# Altium footprint library EReference-PCB.PcbLib: 54 footprints (part 1 of 4)
Each footprint in its own frame and in the unit in brackets; x right, y up, seen from the top. Pads: shape width x height; smd on the part's side, far side on the other; paste and mask are expansions set on the pad; w line width, h text height; cw(c..) or ccw(c..) is an arc to the next point about the centre after c.
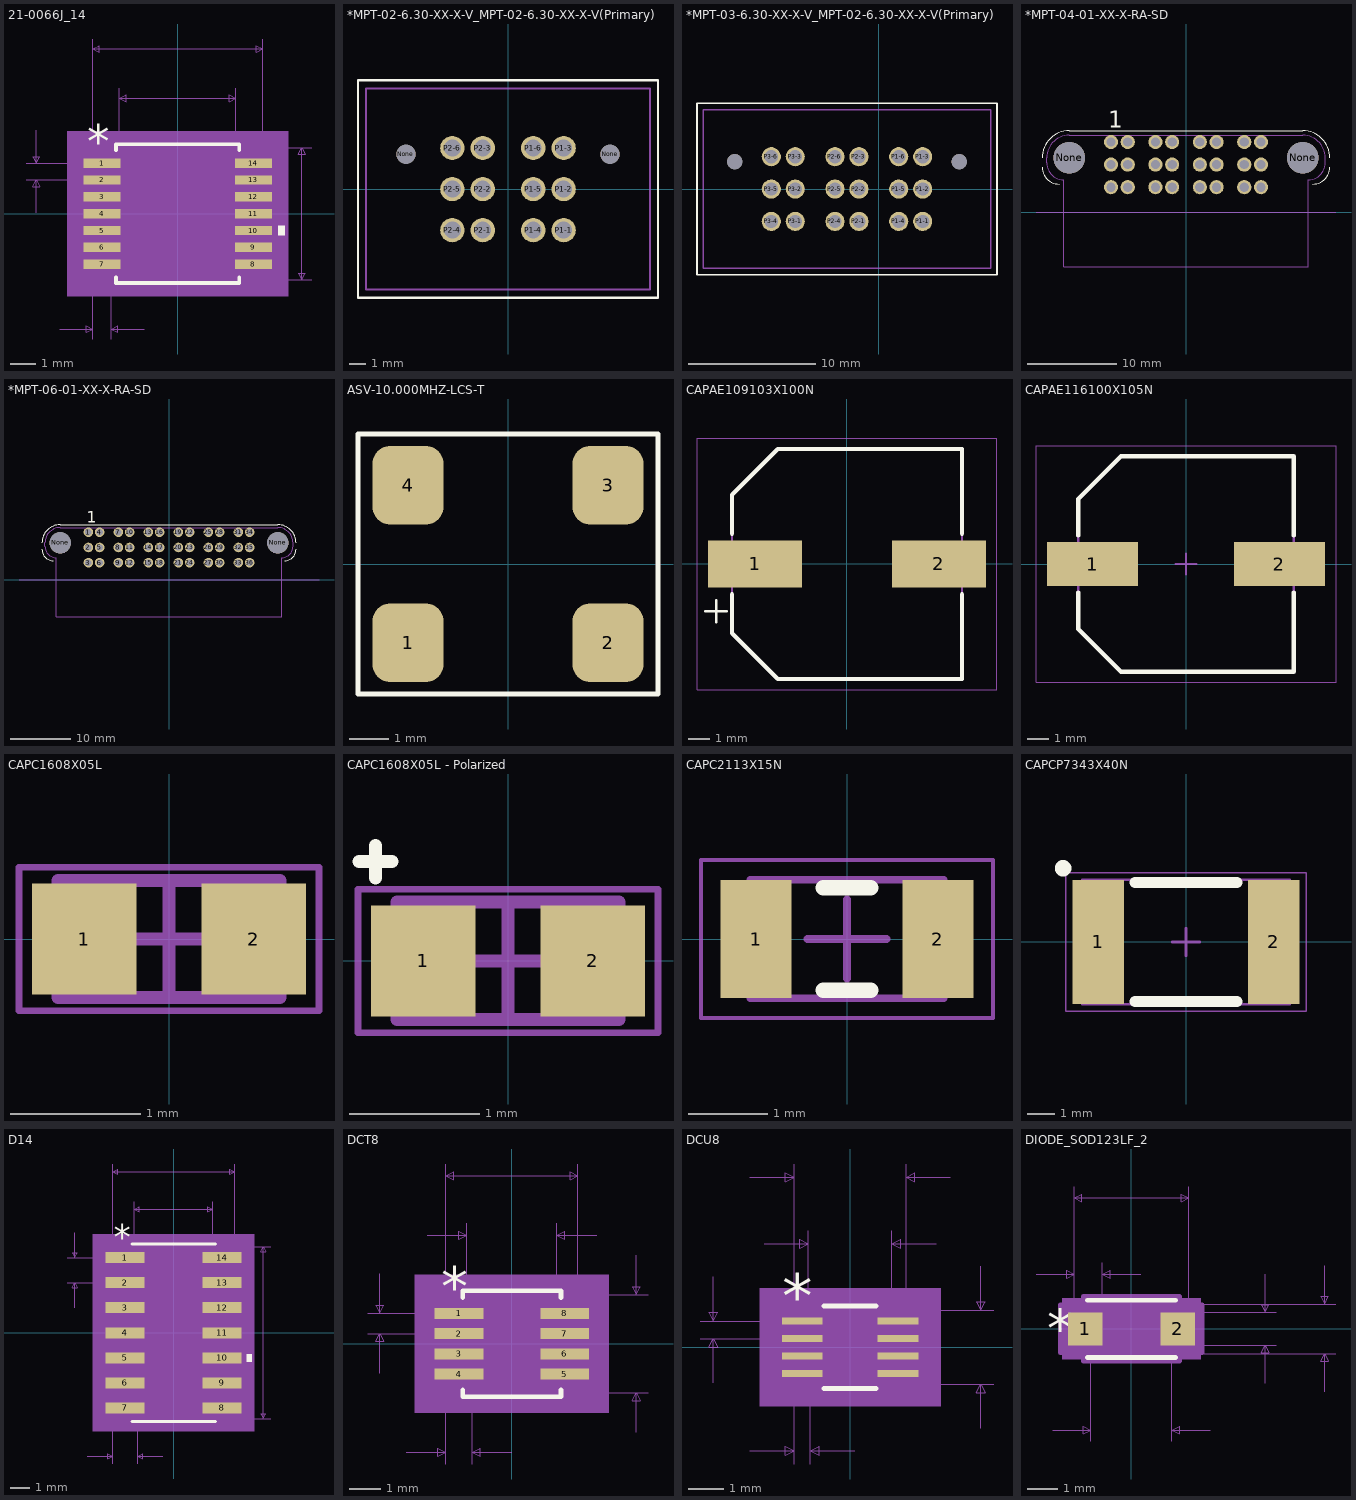
[diagram p0: the footprints below, top view; thin cyan lines are the x and y axes]

## 21-0066J_14 [mil]
pads (14):
  rect 56x14 smd paste+0 mask+0: 1(-115,76.77) 2(-115,51.18) 3(-115,25.59) 4(-115,0) 5(-115,-25.59) 6(-115,-51.18) 7(-115,-76.77) 8(115,-76.77) 9(115,-51.18) 10(115,-25.59) 11(115,0) 12(115,25.59) 13(115,51.18) 14(115,76.77)
Top Overlay:
  region: 153,-18.09 163,-18.09 163,-33.09 153,-33.09
  lines w6: -93.5,-96.87 -93.5,-105.5 93.5,-105.5 93.5,-96.87 ; -93.5,96.87 -93.5,105.5 93.5,105.5 93.5,96.87
  text "*" at -137.5,85.77 h50
Courtyard Top:
  region: 168,-125.5 -168,-125.5 -168,125.5 168,125.5
3D Body Top:
  lines w1: -230,51.18 -115,51.18 ; -230,76.77 -115,76.77 ; -215,1.18 -215,51.18 ; -215,126.77 -215,76.77 ; -179,-175.5 -129,-175.5 ; -129,-190.5 -129,0 -129,265.5 ; -101,-190.5 -101,0 ; -88.5,0 -88.5,190.5 ; -51,-175.5 -101,-175.5 ; 0,-100.5 203.5,-100.5 ; 0,100.5 203.5,100.5 ; 88.5,0 88.5,190.5 ; 129,0 129,265.5 ; -215,51.18 -210,41.18 -220,41.18 -215,51.18 ; -215,76.77 -210,86.77 -220,86.77 -215,76.77 ; -129,-175.5 -139,-180.5 -139,-170.5 -129,-175.5 ; -129,250.5 -119,245.5 -119,255.5 -129,250.5 ; -129,250.5 129,250.5 ; -101,-175.5 -91,-180.5 -91,-170.5 -101,-175.5 ; -88.5,175.5 -78.5,170.5 -78.5,180.5 -88.5,175.5 ; -88.5,175.5 88.5,175.5 ; 88.5,175.5 78.5,170.5 78.5,180.5 88.5,175.5 ; 129,250.5 119,245.5 119,255.5 129,250.5 ; 188.5,-100.5 193.5,-90.5 183.5,-90.5 188.5,-100.5 ; 188.5,-100.5 188.5,100.5 ; 188.5,100.5 193.5,90.5 183.5,90.5 188.5,100.5
  text "0.028in/0.711mm" at -208.75,-220.5 h25
  text "0.026in/0.65mm" at -410,51.48 h25
  text "0.201in/5.105mm" at 208.5,-12.5 h25
  text "0.258in/6.553mm" at -93.75,270.5 h25
  text "0.177in/4.496mm" at -93.75,195.5 h25
  text "Alt 2 Padstyle: OX90Y60D30P" at -337.5,-600.5 h50
  text "Alt 1 Padstyle: OX60Y90D30P" at -337.5,-540.5 h50
  text "Pin One Padstyle: RX56Y14D0T" at -350,-360.5 h50
  text "Default Padstyle: RX56Y14D0T" at -350,-300.5 h50
Assembly:
  lines w0: -12,100.5 ccw(c0,100.5) 12,100.5
  lines w1: -129,-82.77 -88.5,-82.77 -88.5,-70.77 -129,-70.77 -129,-82.77 ; -129,-57.18 -88.5,-57.18 -88.5,-45.18 -129,-45.18 -129,-57.18 ; -129,-31.59 -88.5,-31.59 -88.5,-19.59 -129,-19.59 -129,-31.59 ; -129,-6 -88.5,-6 -88.5,6 -129,6 -129,-6 ; -129,19.59 -88.5,19.59 -88.5,31.59 -129,31.59 -129,19.59 ; -129,45.18 -88.5,45.18 -88.5,57.18 -129,57.18 -129,45.18 ; -129,70.77 -88.5,70.77 -88.5,82.77 -129,82.77 -129,70.77 ; -88.5,-100.5 -88.5,100.5 88.5,100.5 88.5,-100.5 -88.5,-100.5 ; 88.5,-82.77 129,-82.77 129,-70.77 88.5,-70.77 88.5,-82.77 ; 88.5,-57.18 129,-57.18 129,-45.18 88.5,-45.18 88.5,-57.18 ; 88.5,-31.59 129,-31.59 129,-19.59 88.5,-19.59 88.5,-31.59 ; 88.5,-6 129,-6 129,6 88.5,6 88.5,-6 ; 88.5,19.59 129,19.59 129,31.59 88.5,31.59 88.5,19.59 ; 88.5,45.18 129,45.18 129,57.18 88.5,57.18 88.5,45.18 ; 88.5,70.77 129,70.77 129,82.77 88.5,82.77 88.5,70.77
  text "*" at -86,47.5 h50
Mechanical 15:
  region: -98.5,-93.77 -153,-93.77 -153,93.77 -98.5,93.77 -98.5,110.5 98.5,110.5 98.5,93.77 153,93.77 153,-93.77 98.5,-93.77 98.5,-110.5 -98.5,-110.5
  lines w6: -153,-93.77 -98.5,-93.77 -98.5,-110.5 98.5,-110.5 98.5,-93.77 153,-93.77 153,93.77 98.5,93.77 98.5,110.5 -98.5,110.5 -98.5,93.77 -153,93.77 -153,-93.77
3D body: height 10, standoff 0, extent 0,0 10,10

## *MPT-02-6.30-XX-X-V_MPT-02-6.30-XX-X-V(Primary) [mm]
pads (14):
  round 1.19 hole 1.19 unplated: None(-6.31,2.15) None(6.31,2.15)
  round 1.5 hole 1.04: P1-1(3.44,-2.54) P1-2(3.44,0) P1-3(3.44,2.54) P1-4(1.56,-2.54) P1-5(1.56,0) P1-6(1.56,2.54) P2-1(-1.56,-2.54) P2-2(-1.56,0) P2-3(-1.56,2.54) P2-4(-3.44,-2.54) P2-5(-3.44,0) P2-6(-3.44,2.54)
Top Overlay:
  lines w0.127: -9.275,-6.72 -9.275,6.73 9.275,6.73 9.275,-6.72 -9.275,-6.72
Assembly:
  lines w0.127: -8.775,-6.22 -8.775,6.23 ; -8.775,-6.22 8.775,-6.22 ; -8.775,-6.22 -8.775,6.23 ; -8.775,-6.22 8.775,-6.22 ; -8.775,6.23 8.775,6.23 ; -8.775,6.23 8.775,6.23 ; 8.775,-6.22 8.775,6.23 ; 8.775,-6.22 8.775,6.23
3D body "MPT-02-6.30-01-L-V.stp": height 11, standoff -3.1, extent -9.78,-6.227 9.78,6.223

## *MPT-03-6.30-XX-X-V_MPT-02-6.30-XX-X-V(Primary) [mm]
pads (20):
  round 1.19 hole 1.19 unplated: None(-11.31,2.15) None(6.31,2.15)
  round 1.5 hole 1.04: P1-1(3.44,-2.54) P1-2(3.44,0) P1-3(3.44,2.54) P1-4(1.56,-2.54) P1-5(1.56,0) P1-6(1.56,2.54) P2-1(-1.56,-2.54) P2-2(-1.56,0) P2-3(-1.56,2.54) P2-4(-3.44,-2.54) P2-5(-3.44,0) P2-6(-3.44,2.54) P3-1(-6.56,-2.54) P3-2(-6.56,0) P3-3(-6.56,2.54) P3-4(-8.44,-2.54) P3-5(-8.44,0) P3-6(-8.44,2.54)
Top Overlay:
  lines w0.127: -14.271,-6.72 9.275,-6.72 9.275,6.73 -14.271,6.73 -14.271,-6.72
Assembly:
  lines w0.127: -8.775,-6.22 8.775,-6.22 ; -8.775,6.23 8.775,6.23 ; 8.775,-6.22 8.775,6.23 ; 8.775,-6.22 8.775,6.23 ; 8.775,-6.22 -13.775,-6.22 -13.775,6.23 8.775,6.23
3D body "MPT-03-6.30-01-L-V.stp": height 11.5, standoff -2.6, extent -14.781,-6.227 9.779,6.223

## *MPT-04-01-XX-X-RA-SD [mm]
pads (26):
  round 3.56 hole 3.56 unplated: None(-13.14,6.15) None(13.14,6.15)
  round 1.6 hole 1.04: P1-1(-8.44,7.93) P1-2(-8.44,5.39) P1-3(-8.44,2.85) P1-4(-6.56,7.93) P1-5(-6.56,5.39) P1-6(-6.56,2.85) P2-1(-3.44,7.93) P2-2(-3.44,5.39) P2-3(-3.44,2.85) P2-4(-1.56,7.93) P2-5(-1.56,5.39) P2-6(-1.56,2.85) P3-1(1.56,7.93) P3-2(1.56,5.39) P3-3(1.56,2.85) P3-4(3.44,7.93) P3-5(3.44,5.39) P3-6(3.44,2.85) P4-1(6.56,7.93) P4-2(6.56,5.39) P4-3(6.56,2.85) P4-4(8.44,7.93) P4-5(8.44,5.39) P4-6(8.44,2.85)
Top Overlay:
  lines w0.127: -16.18,5.095 ccw(c-14.275,5.095) -14.275,3.19 ; -16.18,6.15 cw(c-13.14,6.15) -13.14,9.19 13.14,9.19 cw(c13.14,6.15) 16.18,6.15 ; 14.275,3.19 ccw(c14.275,5.095) 16.18,5.095
  text "1" at -8.735,9.527 h1.88
Assembly:
  lines w0.127: -15.68,5.595 ccw(c-13.775,5.595) -13.775,3.69 ; -15.68,5.595 ccw(c-13.775,5.595) -13.775,3.69 ; -15.68,5.595 -15.68,6.15 ; -15.68,5.595 -15.68,6.15 ; -15.68,6.15 cw(c-13.14,6.15) -13.14,8.69 ; -15.68,6.15 cw(c-13.14,6.15) -13.14,8.69 ; -13.775,-6.12 -13.775,3.69 ; -13.775,-6.12 13.775,-6.12 ; -13.775,-6.12 -13.775,3.69 ; -13.775,-6.12 13.775,-6.12 ; -13.14,8.69 13.14,8.69 ; -13.14,8.69 13.14,8.69 ; 13.14,8.69 cw(c13.14,6.15) 15.68,6.15 ; 13.14,8.69 cw(c13.14,6.15) 15.68,6.15 ; 13.775,-6.12 13.775,3.69 ; 13.775,-6.12 13.775,3.69 ; 13.775,3.69 ccw(c13.775,5.595) 15.68,5.595 ; 13.775,3.69 ccw(c13.775,5.595) 15.68,5.595 ; 15.68,5.595 15.68,6.15 ; 15.68,5.595 15.68,6.15 ; -16.88,0 16.88,0 -16.88,0
3D body "MPT-04-01-01-L-RA-SD.stp": height 10.75, standoff -2.77, extent -15.621,-6.008 15.739,8.802

## *MPT-06-01-XX-X-RA-SD [mm]
pads (38):
  round 1.6 hole 1.04: 1(-13.44,7.93) 2(-13.44,5.39) 3(-13.44,2.85) 4(-11.56,7.93) 5(-11.56,5.39) 6(-11.56,2.85) 7(-8.44,7.93) 8(-8.44,5.39) 9(-8.44,2.85) 10(-6.56,7.93) 11(-6.56,5.39) 12(-6.56,2.85) 13(-3.44,7.93) 14(-3.44,5.39) 15(-3.44,2.85) 16(-1.56,7.93) 17(-1.56,5.39) 18(-1.56,2.85) 19(1.56,7.93) 20(1.56,5.39) 21(1.56,2.85) 22(3.44,7.93) 23(3.44,5.39) 24(3.44,2.85) 25(6.56,7.93) 26(6.56,5.39) 27(6.56,2.85) 28(8.44,7.93) 29(8.44,5.39) 30(8.44,2.85) 31(11.56,7.93) 32(11.56,5.39) 33(11.56,2.85) 34(13.44,7.93) 35(13.44,5.39) 36(13.44,2.85)
  round 3.56 hole 3.56 unplated: None(-18.14,6.15) None(18.14,6.15)
Top Overlay:
  lines w0.127: -21.18,5.095 ccw(c-19.275,5.095) -19.275,3.19 ; -21.18,6.15 cw(c-18.14,6.15) -18.14,9.19 18.14,9.19 cw(c18.14,6.15) 21.18,6.15 ; 19.275,3.19 ccw(c19.275,5.095) 21.18,5.095
  text "1" at -13.724,9.513 h1.88
Assembly:
  lines w0.127: -20.68,5.595 ccw(c-18.775,5.595) -18.775,3.69 ; -20.68,5.595 ccw(c-18.775,5.595) -18.775,3.69 ; -20.68,5.595 -20.68,6.15 ; -20.68,5.595 -20.68,6.15 ; -20.68,6.15 cw(c-18.14,6.15) -18.14,8.69 ; -20.68,6.15 cw(c-18.14,6.15) -18.14,8.69 ; -18.775,-6.12 -18.775,3.69 ; -18.775,-6.12 18.775,-6.12 ; -18.775,-6.12 -18.775,3.69 ; -18.775,-6.12 18.775,-6.12 ; -18.14,8.69 18.14,8.69 ; -18.14,8.69 18.14,8.69 ; 18.14,8.69 cw(c18.14,6.15) 20.68,6.15 ; 18.14,8.69 cw(c18.14,6.15) 20.68,6.15 ; 18.775,-6.12 18.775,3.69 ; 18.775,-6.12 18.775,3.69 ; 18.775,3.69 ccw(c18.775,5.595) 20.68,5.595 ; 18.775,3.69 ccw(c18.775,5.595) 20.68,5.595 ; 20.68,5.595 20.68,6.15 ; 20.68,5.595 20.68,6.15 ; -25,0 25,0 -25,0
3D body "MPT-06-01-03-L-RA-SD.stp": height 10.85, standoff -3.46, extent -20.701,-6.047 20.659,8.763

## ASV-10.000MHZ-LCS-T [mm] "Recomended Footprint for ASV-10.000MHZ-LCS-T Crystal"
height 1.8
pads (4):
  rrect50% 1.8x2 smd: 1(-2.54,-2) 2(2.54,-2) 3(2.54,2) 4(-2.54,2)
Top Overlay:
  lines w0.128: -3.81,-3.302 -3.81,3.302 3.81,3.302 3.81,-3.302 -3.81,-3.302
3D body "ASV.STEP": height 1.8, standoff 0, extent -3.5,-2.54 3.5,2.54

## CAPAE109103X100N [mm] "Aluminum Electrolytic Capacitor, Body 10.30x10.30x10.00mm, IPC Medium Density"
height 10
pads (2):
  rect 4.3x2.15 smd: 1(-4.2,0) 2(4.2,0)
Top Overlay:
  lines w0.1: -6.477,-2.159 -5.477,-2.159 ; -5.969,-2.659 -5.969,-1.659
  lines w0.2: -5.25,-1.375 -5.25,-3.163 -3.162,-5.25 5.25,-5.25 5.25,-1.375 ; -5.25,1.375 -5.25,3.162 -3.162,5.25 5.25,5.25 5.25,1.375
Assembly:
  lines w0.1: -5.25,-3.163 -3.162,-5.25 5.25,-5.25 5.25,5.25 -3.162,5.25 -5.25,3.162 -5.25,-3.163
Mechanical 15:
  lines w0.05: -6.85,-5.75 -6.85,5.75 6.85,5.75 6.85,-5.75 -6.85,-5.75
3D body "CAPAE109103X100N.step": height 10, standoff 0, extent -5.45,-5.25 5.45,5.25

## CAPAE116100X105N [mm] "Aluminum Electrolytic Capacitor, Body 10.00x10.00x10.50mm, IPC Medium Density"
height 10.5
pads (2):
  rect 4.3x2.1 smd: 1(-4.425,0) 2(4.425,0)
Top Overlay:
  lines w0.2: -5.1,-1.35 -5.1,-3.075 -3.075,-5.1 5.1,-5.1 5.1,-1.35 ; -5.1,1.35 -5.1,3.075 -3.075,5.1 5.1,5.1 5.1,1.35
Assembly:
  lines w0.1: -5.1,-3.075 -5.1,3.075 -3.075,5.1 5.1,5.1 5.1,-5.1 -3.075,-5.1 -5.1,-3.075
Mechanical 15:
  lines w0.05: -7.1,-5.6 7.1,-5.6 7.1,5.6 -7.1,5.6 -7.1,-5.6
  lines w0.1: -0.5,0 0.5,0 ; 0,-0.5 0,0.5
3D body "CAPAE116100X105N.step": height 10.5, standoff 0, extent -5.8,-5.1 5.8,5.1

## CAPC1608X05L [mm] "Chip Capacitor, 2-Leads, Body 1.60x0.80mm, IPC High Density"
height 0.5
pads (2):
  rect 0.8x0.85 smd: 1(-0.65,0) 2(0.65,0)
Assembly:
  lines w0.1: -0.85,-0.45 0.85,-0.45 0.85,0.45 -0.85,0.45 -0.85,-0.45
Mechanical 15:
  lines w0.05: -1.15,-0.55 1.15,-0.55 1.15,0.55 -1.15,0.55 -1.15,-0.55
  lines w0.1: -0.45,0 0.45,0 ; 0,-0.45 0,0.45
3D body "CAPC1608X05L.step": height 0.5, standoff 0, extent -0.85,-0.45 0.85,0.45

## CAPC1608X05L - Polarized [mm] "Chip Capacitor, 2-Leads, Body 1.60x0.80mm, IPC High Density"
height 0.5
pads (2):
  rect 0.8x0.85 smd: 1(-0.65,0) 2(0.65,0)
Top Overlay:
  lines w0.1: -1.143,0.762 -0.889,0.762 ; -1.016,0.635 -1.016,0.885
Assembly:
  lines w0.1: -0.85,-0.45 -0.85,0.45 0.85,0.45 0.85,-0.45 -0.85,-0.45
Mechanical 15:
  lines w0.05: -1.15,-0.55 -1.15,0.55 1.15,0.55 1.15,-0.55 -1.15,-0.55
  lines w0.1: -0.45,0 0.45,0 ; 0,-0.45 0,0.45
3D body "CAPC1608X05L.step": height 0.5, standoff 0, extent -0.85,-0.45 0.85,0.45

## CAPC2113X15N [mm] "Chip Capacitor, 2-Leads, Body 2.13x1.27mm, IPC Medium Density"
height 1.5
pads (2):
  rect 0.9x1.5 smd: 1(-1.15,0) 2(1.15,0)
Top Overlay:
  lines w0.2: -0.3,-0.65 0.3,-0.65 ; -0.3,0.65 0.3,0.65
Assembly:
  lines w0.1: -1.225,-0.75 -1.225,0.75 1.225,0.75 1.225,-0.75 -1.225,-0.75
Mechanical 15:
  lines w0.05: -1.85,-1 -1.85,1 1.85,1 1.85,-1 -1.85,-1
  lines w0.1: -0.5,0 0.5,0 ; 0,-0.5 0,0.5
3D body "CAPC2113X15N.step": height 1.5, standoff 0, extent -1.225,-0.75 1.225,0.75

## CAPCP7343X40N [mm] "Chip Capacitor, 2-Leads, Body 7.30x4.30mm, IPC Medium Density"
height 4
pads (2):
  rect 1.85x4.5 smd: 1(-3.175,0) 2(3.175,0)
Top Overlay:
  circle w0.5: c-4.445,2.667 r0.05
  lines w0.4: -1.85,-2.15 1.85,-2.15 ; -1.85,2.15 1.85,2.15
Assembly:
  lines w0.1: -3.75,-2.25 3.75,-2.25 3.75,2.25 -3.75,2.25 -3.75,-2.25
Mechanical 15:
  lines w0.05: -4.35,-2.5 4.35,-2.5 4.35,2.5 -4.35,2.5 -4.35,-2.5
  lines w0.1: -0.5,0 0.5,0 ; 0,-0.5 0,0.5
3D body: height 4, standoff 0, extent 2.45,-2.25 3.75,2.25
3D body: height 4, standoff 0, extent -3.75,-2.25 -2.45,2.25
3D body: height 4, standoff 0, extent -2.45,-2.25 2.45,2.25

## D14 [mil]
pads (14):
  rect 78x22 smd paste+0 mask+0: 1(-97,150) 2(-97,100) 3(-97,50) 4(-97,0) 5(-97,-50) 6(-97,-100) 7(-97,-150) 8(97,-150) 9(97,-100) 10(97,-50) 11(97,0) 12(97,50) 13(97,100) 14(97,150)
Top Overlay:
  region: 146,-42.5 156,-42.5 156,-57.5 146,-57.5
  lines w6: -83.5,-177 83.5,-177 ; -83.5,177 83.5,177
  text "*" at -119.5,167 h50
Courtyard Top:
  region: 161,-197 -161,-197 -161,197 161,197
3D Body Top:
  lines w1: -212,100 -97,100 ; -212,150 -97,150 ; -197,50 -197,100 ; -197,200 -197,150 ; -172,-247 -122,-247 ; -122,-262 -122,0 -122,337 ; -78.5,0 -78.5,262 ; -72,-262 -72,0 ; -22,-247 -72,-247 ; 0,-172 193.5,-172 ; 0,172 193.5,172 ; 78.5,0 78.5,262 ; 122,0 122,337 ; -197,100 -202,90 -192,90 -197,100 ; -197,150 -202,160 -192,160 -197,150 ; -122,-247 -132,-242 -132,-252 -122,-247 ; -122,322 122,322 ; -122,322 -112,327 -112,317 -122,322 ; -78.5,247 78.5,247 ; -78.5,247 -68.5,252 -68.5,242 -78.5,247 ; -72,-247 -62,-242 -62,-252 -72,-247 ; 78.5,247 68.5,252 68.5,242 78.5,247 ; 122,322 112,327 112,317 122,322 ; 178.5,-172 178.5,172 ; 178.5,-172 173.5,-162 183.5,-162 178.5,-172 ; 178.5,172 173.5,162 183.5,162 178.5,172
  text "Default Padstyle: RX78Y22D0T" at -350,-372 h50
  text "Pin One Padstyle: RX78Y22D0T" at -350,-432 h50
  text "Alt 1 Padstyle: OX60Y90D30P" at -337.5,-612 h50
  text "Alt 2 Padstyle: OX90Y60D30P" at -337.5,-672 h50
  text "0.157in/3.988mm" at -93.75,267 h25
  text "0.244in/6.198mm" at -93.75,342 h25
  text "0.344in/8.738mm" at 198.5,-12.5 h25
  text "0.05in/1.27mm" at -379.5,112.5 h25
  text "0.05in/1.27mm" at -178.25,-292 h25
Assembly:
  lines w0: -12,172 ccw(c0,172) 12,172
  lines w1: -122,-160 -122,-140 -78.5,-140 -78.5,-160 -122,-160 ; -122,-110 -122,-90 -78.5,-90 -78.5,-110 -122,-110 ; -122,-60 -122,-40 -78.5,-40 -78.5,-60 -122,-60 ; -122,-10 -122,10 -78.5,10 -78.5,-10 -122,-10 ; -122,40 -122,60 -78.5,60 -78.5,40 -122,40 ; -122,90 -122,110 -78.5,110 -78.5,90 -122,90 ; -122,140 -122,160 -78.5,160 -78.5,140 -122,140 ; -78.5,-172 78.5,-172 78.5,172 -78.5,172 -78.5,-172 ; 78.5,-160 78.5,-140 122,-140 122,-160 78.5,-160 ; 78.5,-110 78.5,-90 122,-90 122,-110 78.5,-110 ; 78.5,-60 78.5,-40 122,-40 122,-60 78.5,-60 ; 78.5,-10 78.5,10 122,10 122,-10 78.5,-10 ; 78.5,40 78.5,60 122,60 122,40 78.5,40 ; 78.5,90 78.5,110 122,110 122,90 78.5,90 ; 78.5,140 78.5,160 122,160 122,140 78.5,140
  text "*" at -76,119 h50
Mechanical 15:
  region: -88.5,-171 -146,-171 -146,171 -88.5,171 -88.5,182 88.5,182 88.5,171 146,171 146,-171 88.5,-171 88.5,-182 -88.5,-182
  lines w6: -146,-171 -146,171 -88.5,171 -88.5,182 88.5,182 88.5,171 146,171 146,-171 88.5,-171 88.5,-182 -88.5,-182 -88.5,-171 -146,-171
3D body: height 10, standoff 0, extent 0,0 10,10

## DCT8 [mil]
pads (8):
  rect 61.5x14 smd paste+0 mask+0: 1(-66.75,38.39) 2(-66.75,12.8) 3(-66.75,-12.8) 4(-66.75,-38.39) 5(66.75,-38.39) 6(66.75,-12.8) 7(66.75,12.8) 8(66.75,38.39)
Top Overlay:
  lines w6: -62,-58.49 -62,-67 62,-67 62,-58.49 ; -62,58.49 -62,67 62,67 62,58.49
  text "*" at -89.25,47.39 h50
Courtyard Top:
  region: 122.5,-87 -122.5,-87 -122.5,87 122.5,87
3D Body Top:
  lines w1: -181.75,12.8 -66.75,12.8 ; -181.75,38.39 -66.75,38.39 ; -166.75,-37.2 -166.75,12.8 ; -166.75,88.39 -166.75,38.39 ; -133.5,-137 -83.5,-137 ; -107,137 -57,137 ; -83.5,-152 -83.5,0 -83.5,227 ; -57,0 -57,152 ; -50,-152 -50,0 ; 0,-137 -50,-137 ; 0,-62 172,-62 ; 0,62 172,62 ; 57,0 57,152 ; 83.5,0 83.5,227 ; 107,137 57,137 ; 157,-112 157,-62 ; 157,112 157,62 ; -166.75,12.8 -161.75,2.8 -171.75,2.8 -166.75,12.8 ; -166.75,38.39 -161.75,48.39 -171.75,48.39 -166.75,38.39 ; -83.5,-137 -93.5,-142 -93.5,-132 -83.5,-137 ; -83.5,212 -73.5,207 -73.5,217 -83.5,212 ; -83.5,212 83.5,212 ; -57,137 -67,132 -67,142 -57,137 ; -50,-137 -40,-142 -40,-132 -50,-137 ; 57,137 67,132 67,142 57,137 ; 83.5,212 73.5,207 73.5,217 83.5,212 ; 157,-62 162,-72 152,-72 157,-62 ; 157,62 162,72 152,72 157,62
  text "0.024in/0.61mm" at -154.25,-182 h25
  text "0.026in/0.65mm" at -361.75,13.09 h25
  text "0.124in/3.15mm" at 177,-12.5 h25
  text "0.167in/4.242mm" at -93.75,232 h25
  text "0.114in/2.896mm" at -93.75,157 h25
  text "Alt 2 Padstyle: OX90Y60D30P" at -337.5,-562 h50
  text "Alt 1 Padstyle: OX60Y90D30P" at -337.5,-502 h50
  text "Pin One Padstyle: RX61p5Y14D0T" at -375,-322 h50
  text "Default Padstyle: RX61p5Y14D0T" at -375,-262 h50
Assembly:
  lines w0: -12,62 ccw(c0,62) 12,62
  lines w1: -83.5,-44.39 -57,-44.39 -57,-32.39 -83.5,-32.39 -83.5,-44.39 ; -83.5,-18.8 -57,-18.8 -57,-6.8 -83.5,-6.8 -83.5,-18.8 ; -83.5,6.8 -57,6.8 -57,18.8 -83.5,18.8 -83.5,6.8 ; -83.5,32.39 -57,32.39 -57,44.39 -83.5,44.39 -83.5,32.39 ; -57,-62 -57,62 57,62 57,-62 -57,-62 ; 57,-44.39 83.5,-44.39 83.5,-32.39 57,-32.39 57,-44.39 ; 57,-18.8 83.5,-18.8 83.5,-6.8 57,-6.8 57,-18.8 ; 57,6.8 83.5,6.8 83.5,18.8 57,18.8 57,6.8 ; 57,32.39 83.5,32.39 83.5,44.39 57,44.39 57,32.39
  text "*" at -54.5,9 h50
Mechanical 15:
  region: -67,-55.39 -107.5,-55.39 -107.5,55.39 -67,55.39 -67,72 67,72 67,55.39 107.5,55.39 107.5,-55.39 67,-55.39 67,-72 -67,-72
  lines w6: -107.5,-55.39 -67,-55.39 -67,-72 67,-72 67,-55.39 107.5,-55.39 107.5,55.39 67,55.39 67,72 -67,72 -67,55.39 -107.5,55.39 -107.5,-55.39
3D body: height 10, standoff 0, extent 0,0 10,10

## DCU8 [mil]
pads (8):
  rect 46x8 smd paste+0 mask+0: 1(-54,29.53) 2(-54,9.84) 3(-54,-9.84) 4(-54,-29.53) 5(54,-29.53) 6(54,-9.84) 7(54,9.84) 8(54,29.53)
Top Overlay:
  lines w6: -29.18,-46.5 29.18,-46.5 ; -29.18,46.5 29.18,46.5
  text "*" at -76.5,32.53 h50
Courtyard Top:
  region: 102,-66.5 -102,-66.5 -102,66.5 102,66.5
3D Body Top:
  lines w1: -169,9.84 -54,9.84 ; -169,29.53 -54,29.53 ; -154,-40.16 -154,9.84 ; -154,79.53 -154,29.53 ; -113,-116.5 -63,-116.5 ; -113,191.5 -63,191.5 ; -97,116.5 -47,116.5 ; -63,-131.5 -63,0 -63,206.5 ; -47,0 -47,131.5 ; -45,-131.5 -45,0 ; 0,-41.5 162,-41.5 ; 0,41.5 162,41.5 ; 5,-116.5 -45,-116.5 ; 47,0 47,131.5 ; 63,0 63,206.5 ; 97,116.5 47,116.5 ; 113,191.5 63,191.5 ; 147,-91.5 147,-41.5 ; 147,91.5 147,41.5 ; -154,9.84 -159,-0.16 -149,-0.16 -154,9.84 ; -154,29.53 -159,39.53 -149,39.53 -154,29.53 ; -63,-116.5 -73,-111.5 -73,-121.5 -63,-116.5 ; -63,191.5 -73,196.5 -73,186.5 -63,191.5 ; -47,116.5 -57,121.5 -57,111.5 -47,116.5 ; -45,-116.5 -35,-111.5 -35,-121.5 -45,-116.5 ; 47,116.5 57,121.5 57,111.5 47,116.5 ; 63,191.5 73,196.5 73,186.5 63,191.5 ; 147,-41.5 142,-51.5 152,-51.5 147,-41.5 ; 147,41.5 142,51.5 152,51.5 147,41.5
  text "Default Padstyle: RX46Y8D0T" at -337.5,-241.5 h50
  text "Pin One Padstyle: RX46Y8D0T" at -337.5,-301.5 h50
  text "Alt 1 Padstyle: OX60Y90D30P" at -337.5,-481.5 h50
  text "Alt 2 Padstyle: OX90Y60D30P" at -337.5,-541.5 h50
  text "0.094in/2.388mm" at -93.75,136.5 h25
  text "0.126in/3.2mm" at -81.25,211.5 h25
  text "0.083in/2.108mm" at 167,-12.5 h25
  text "0.02in/0.5mm" at -324,7.18 h25
  text "0.014in/0.356mm" at -147.75,-161.5 h25
Assembly:
  lines w0: -12,41.5 ccw(c0,41.5) 12,41.5
  lines w1: -63,-34.53 -63,-24.53 -47,-24.53 -47,-34.53 -63,-34.53 ; -63,-14.84 -63,-4.84 -47,-4.84 -47,-14.84 -63,-14.84 ; -63,4.84 -63,14.84 -47,14.84 -47,4.84 -63,4.84 ; -63,24.53 -63,34.53 -47,34.53 -47,24.53 -63,24.53 ; -47,-41.5 47,-41.5 47,41.5 -47,41.5 -47,-41.5 ; 47,-34.53 47,-24.53 63,-24.53 63,-34.53 47,-34.53 ; 47,-14.84 47,-4.84 63,-4.84 63,-14.84 47,-14.84 ; 47,4.84 47,14.84 63,14.84 63,4.84 47,4.84 ; 47,24.53 47,34.53 63,34.53 63,24.53 47,24.53
  text "*" at -44.5,-11.5 h50
Mechanical 15:
  region: -57,-43.53 -87,-43.53 -87,43.53 -57,43.53 -57,51.5 57,51.5 57,43.53 87,43.53 87,-43.53 57,-43.53 57,-51.5 -57,-51.5
  lines w6: -87,-43.53 -87,43.53 -57,43.53 -57,51.5 57,51.5 57,43.53 87,43.53 87,-43.53 57,-43.53 57,-51.5 -57,-51.5 -57,-43.53 -87,-43.53
3D body: height 10, standoff 0, extent 0,0 10,10

## DIODE_SOD123LF_2 [mil]
pads (2):
  rect 45x43 smd paste+0 mask+0: 1(-60.5,0) 2(60.5,0)
Top Overlay:
  lines w6: -58,-37.5 58,-37.5 ; -58,37.5 58,37.5
  text "*" at -110.5,-25 h50
Courtyard Top:
  region: 90.5,-40 -90.5,-40 -90.5,40 90.5,40
3D Body Top:
  lines w1: -125,71.5 -75,71.5 ; -103,-132.5 -53,-132.5 ; -75,86.5 -75,0 -75,186.5 ; -53,-147.5 -53,0 ; -38,0 -38,86.5 ; 0,-32.5 268,-32.5 ; 0,32.5 268,32.5 ; 12,71.5 -38,71.5 ; 53,-147.5 53,0 ; 75,-21.5 190,-21.5 ; 75,0 75,186.5 ; 75,21.5 190,21.5 ; 103,-132.5 53,-132.5 ; 175,-71.5 175,-21.5 ; 175,71.5 175,21.5 ; 253,-82.5 253,-32.5 ; 253,82.5 253,32.5 ; -75,71.5 -85,76.5 -85,66.5 -75,71.5 ; -75,171.5 75,171.5 ; -75,171.5 -65,176.5 -65,166.5 -75,171.5 ; -53,-132.5 -63,-127.5 -63,-137.5 -53,-132.5 ; -38,71.5 -28,76.5 -28,66.5 -38,71.5 ; 53,-132.5 63,-127.5 63,-137.5 53,-132.5 ; 75,171.5 65,176.5 65,166.5 75,171.5 ; 175,-21.5 170,-31.5 180,-31.5 175,-21.5 ; 175,21.5 170,31.5 180,31.5 175,21.5 ; 253,-32.5 248,-42.5 258,-42.5 253,-32.5 ; 253,32.5 248,42.5 258,42.5 253,32.5
  text "Default Padstyle: RX45Y43D0T" at -350,-346.5 h50
  text "Alt 1 Padstyle: OX60Y90D30P" at -337.5,-421.5 h50
  text "Alt 2 Padstyle: OX90Y60D30P" at -337.5,-496.5 h50
  text "0.15in/3.81mm" at -81.25,191.5 h25
  text "0.037in/0.94mm" at -144,91.5 h25
  text "0.043in/1.092mm" at 195,-12.5 h25
  text "0.065in/1.651mm" at 273,-12.5 h25
  text "0.106in/2.692mm" at -93.75,-177.5 h25
Assembly:
  lines w1: -53,-16.25 -36.75,-32.5 ; -53,16.25 -36.75,32.5 ; -75,-21.5 -75,21.5 -53,21.5 -53,-21.5 -75,-21.5 ; -53,-32.5 53,-32.5 53,32.5 -53,32.5 -53,-32.5 ; 53,-21.5 53,21.5 75,21.5 75,-21.5 53,-21.5
  text "*" at -55.5,-25 h50
Mechanical 15:
  region: -63,-31.5 -93,-31.5 -93,31.5 -63,31.5 -63,42.5 63,42.5 63,31.5 93,31.5 93,-31.5 63,-31.5 63,-42.5 -63,-42.5
  lines w6: -93,-31.5 -93,31.5 -63,31.5 -63,42.5 63,42.5 63,31.5 93,31.5 93,-31.5 63,-31.5 63,-42.5 -63,-42.5 -63,-31.5 -93,-31.5
3D body: height 10, standoff 0, extent 0,0 10,10